# Altium schematic symbol library RC0603.SchLib: 789 symbols (part 9 of 11)
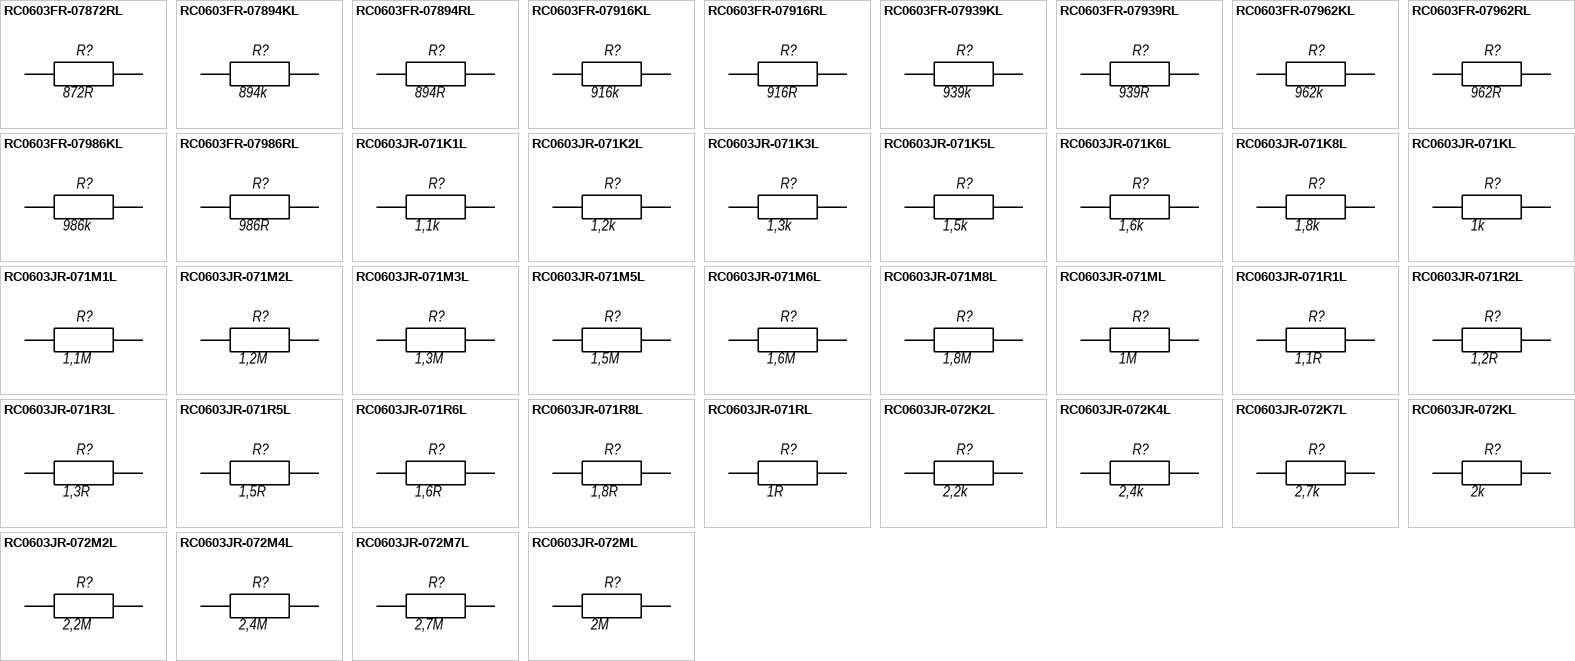
[diagram p27: symbols RC0603FR-07872RL to RC0603JR-072ML]

## RC0603JR-071M5L
designator R?, comment 1,5M
RC0603JR-071M5L 0603 1.5 MOhm ±5% 1/10W 0603 SMD -55C...+155C; Manufacturer: Yageo; BOM2: 1,5 МОм ±5%, 1/10 Вт, SMD 0603, RC0603JR-071M5L; ValueBOM: RC0603JR-071M5L   Yageo                            (1,5 МОм ±5%, 1/10 Вт, SMD 0603, RC0603JR-071M5L); Value: 1,5M; Part Number: RC0603JR-071M5L; Package: 0603; BOM1: 1.5 MOhm ±5% 1/10W 0603 SMD
footprint RESC_0603_1608N (Chip Resistor, Body 1.6x0.8mm, IPC Medium Density)
footprint RESC_0603_1608M (Chip Resistor, Body 1.6x0.8mm, IPC Low Density)
footprint RESC_0603_1608L (Chip Resistor, Body 1.6x0.8mm, IPC High Density)
pins: 1, 2

## RC0603JR-071M6L
designator R?, comment 1,6M
RC0603JR-071M6L 0603 1.6 MOhm ±5% 1/10W 0603 SMD -55C...+155C; Manufacturer: Yageo; BOM2: 1,6 МОм ±5%, 1/10 Вт, SMD 0603, RC0603JR-071M6L; ValueBOM: RC0603JR-071M6L   Yageo                            (1,6 МОм ±5%, 1/10 Вт, SMD 0603, RC0603JR-071M6L); Value: 1,6M; Part Number: RC0603JR-071M6L; Package: 0603; BOM1: 1.6 MOhm ±5% 1/10W 0603 SMD
footprint RESC_0603_1608N (Chip Resistor, Body 1.6x0.8mm, IPC Medium Density)
footprint RESC_0603_1608M (Chip Resistor, Body 1.6x0.8mm, IPC Low Density)
footprint RESC_0603_1608L (Chip Resistor, Body 1.6x0.8mm, IPC High Density)
pins: 1, 2

## RC0603JR-071M8L
designator R?, comment 1,8M
RC0603JR-071M8L 0603 1.8 MOhm ±5% 1/10W 0603 SMD -55C...+155C; Manufacturer: Yageo; BOM2: 1,8 МОм ±5%, 1/10 Вт, SMD 0603, RC0603JR-071M8L; ValueBOM: RC0603JR-071M8L   Yageo                            (1,8 МОм ±5%, 1/10 Вт, SMD 0603, RC0603JR-071M8L); Value: 1,8M; Part Number: RC0603JR-071M8L; Package: 0603; BOM1: 1.8 MOhm ±5% 1/10W 0603 SMD
footprint RESC_0603_1608N (Chip Resistor, Body 1.6x0.8mm, IPC Medium Density)
footprint RESC_0603_1608M (Chip Resistor, Body 1.6x0.8mm, IPC Low Density)
footprint RESC_0603_1608L (Chip Resistor, Body 1.6x0.8mm, IPC High Density)
pins: 1, 2

## RC0603JR-071ML
designator R?, comment 1M
RC0603JR-071ML 0603 1 MOhm ±5% 1/10W 0603 SMD -55C...+155C; Manufacturer: Yageo; BOM2: 1 МОм ±5%, 1/10 Вт, SMD 0603, RC0603JR-071ML; ValueBOM: RC0603JR-071ML   Yageo                            (1 МОм ±5%, 1/10 Вт, SMD 0603, RC0603JR-071ML); Value: 1M; Part Number: RC0603JR-071ML; Package: 0603; BOM1: 1 MOhm ±5% 1/10W 0603 SMD
footprint RESC_0603_1608N (Chip Resistor, Body 1.6x0.8mm, IPC Medium Density)
footprint RESC_0603_1608M (Chip Resistor, Body 1.6x0.8mm, IPC Low Density)
footprint RESC_0603_1608L (Chip Resistor, Body 1.6x0.8mm, IPC High Density)
pins: 1, 2

## RC0603JR-071R1L
designator R?, comment 1,1R
RC0603JR-071R1L 0603 1.1 Ohm ±5% 1/10W 0603 SMD -55C...+155C; Manufacturer: Yageo; BOM2: 1,1 Ом ±5%, 1/10 Вт, SMD 0603, RC0603JR-071R1L; ValueBOM: RC0603JR-071R1L   Yageo                            (1,1 Ом ±5%, 1/10 Вт, SMD 0603, RC0603JR-071R1L); Value: 1,1R; Part Number: RC0603JR-071R1L; Package: 0603; BOM1: 1.1 Ohm ±5% 1/10W 0603 SMD
footprint RESC_0603_1608N (Chip Resistor, Body 1.6x0.8mm, IPC Medium Density)
footprint RESC_0603_1608M (Chip Resistor, Body 1.6x0.8mm, IPC Low Density)
footprint RESC_0603_1608L (Chip Resistor, Body 1.6x0.8mm, IPC High Density)
pins: 1, 2

## RC0603JR-071R2L
designator R?, comment 1,2R
RC0603JR-071R2L 0603 1.2 Ohm ±5% 1/10W 0603 SMD -55C...+155C; Manufacturer: Yageo; BOM2: 1,2 Ом ±5%, 1/10 Вт, SMD 0603, RC0603JR-071R2L; ValueBOM: RC0603JR-071R2L   Yageo                            (1,2 Ом ±5%, 1/10 Вт, SMD 0603, RC0603JR-071R2L); Value: 1,2R; Part Number: RC0603JR-071R2L; Package: 0603; BOM1: 1.2 Ohm ±5% 1/10W 0603 SMD
footprint RESC_0603_1608N (Chip Resistor, Body 1.6x0.8mm, IPC Medium Density)
footprint RESC_0603_1608M (Chip Resistor, Body 1.6x0.8mm, IPC Low Density)
footprint RESC_0603_1608L (Chip Resistor, Body 1.6x0.8mm, IPC High Density)
pins: 1, 2

## RC0603JR-071R3L
designator R?, comment 1,3R
RC0603JR-071R3L 0603 1.3 Ohm ±5% 1/10W 0603 SMD -55C...+155C; Manufacturer: Yageo; BOM2: 1,3 Ом ±5%, 1/10 Вт, SMD 0603, RC0603JR-071R3L; ValueBOM: RC0603JR-071R3L   Yageo                            (1,3 Ом ±5%, 1/10 Вт, SMD 0603, RC0603JR-071R3L); Value: 1,3R; Part Number: RC0603JR-071R3L; Package: 0603; BOM1: 1.3 Ohm ±5% 1/10W 0603 SMD
footprint RESC_0603_1608N (Chip Resistor, Body 1.6x0.8mm, IPC Medium Density)
footprint RESC_0603_1608M (Chip Resistor, Body 1.6x0.8mm, IPC Low Density)
footprint RESC_0603_1608L (Chip Resistor, Body 1.6x0.8mm, IPC High Density)
pins: 1, 2

## RC0603JR-071R5L
designator R?, comment 1,5R
RC0603JR-071R5L 0603 1.5 Ohm ±5% 1/10W 0603 SMD -55C...+155C; Manufacturer: Yageo; BOM2: 1,5 Ом ±5%, 1/10 Вт, SMD 0603, RC0603JR-071R5L; ValueBOM: RC0603JR-071R5L   Yageo                            (1,5 Ом ±5%, 1/10 Вт, SMD 0603, RC0603JR-071R5L); Value: 1,5R; Part Number: RC0603JR-071R5L; Package: 0603; BOM1: 1.5 Ohm ±5% 1/10W 0603 SMD
footprint RESC_0603_1608N (Chip Resistor, Body 1.6x0.8mm, IPC Medium Density)
footprint RESC_0603_1608M (Chip Resistor, Body 1.6x0.8mm, IPC Low Density)
footprint RESC_0603_1608L (Chip Resistor, Body 1.6x0.8mm, IPC High Density)
pins: 1, 2

## RC0603JR-071R6L
designator R?, comment 1,6R
RC0603JR-071R6L 0603 1.6 Ohm ±5% 1/10W 0603 SMD -55C...+155C; Manufacturer: Yageo; BOM2: 1,6 Ом ±5%, 1/10 Вт, SMD 0603, RC0603JR-071R6L; ValueBOM: RC0603JR-071R6L   Yageo                            (1,6 Ом ±5%, 1/10 Вт, SMD 0603, RC0603JR-071R6L); Value: 1,6R; Part Number: RC0603JR-071R6L; Package: 0603; BOM1: 1.6 Ohm ±5% 1/10W 0603 SMD
footprint RESC_0603_1608N (Chip Resistor, Body 1.6x0.8mm, IPC Medium Density)
footprint RESC_0603_1608M (Chip Resistor, Body 1.6x0.8mm, IPC Low Density)
footprint RESC_0603_1608L (Chip Resistor, Body 1.6x0.8mm, IPC High Density)
pins: 1, 2

## RC0603JR-071R8L
designator R?, comment 1,8R
RC0603JR-071R8L 0603 1.8 Ohm ±5% 1/10W 0603 SMD -55C...+155C; Manufacturer: Yageo; BOM2: 1,8 Ом ±5%, 1/10 Вт, SMD 0603, RC0603JR-071R8L; ValueBOM: RC0603JR-071R8L   Yageo                            (1,8 Ом ±5%, 1/10 Вт, SMD 0603, RC0603JR-071R8L); Value: 1,8R; Part Number: RC0603JR-071R8L; Package: 0603; BOM1: 1.8 Ohm ±5% 1/10W 0603 SMD
footprint RESC_0603_1608N (Chip Resistor, Body 1.6x0.8mm, IPC Medium Density)
footprint RESC_0603_1608M (Chip Resistor, Body 1.6x0.8mm, IPC Low Density)
footprint RESC_0603_1608L (Chip Resistor, Body 1.6x0.8mm, IPC High Density)
pins: 1, 2

## RC0603JR-071RL
designator R?, comment 1R
RC0603JR-071RL 0603 1 Ohm ±5% 1/10W 0603 SMD -55C...+155C; Manufacturer: Yageo; BOM2: 1 Ом ±5%, 1/10 Вт, SMD 0603, RC0603JR-071RL; ValueBOM: RC0603JR-071RL   Yageo                            (1 Ом ±5%, 1/10 Вт, SMD 0603, RC0603JR-071RL); Value: 1R; Part Number: RC0603JR-071RL; Package: 0603; BOM1: 1 Ohm ±5% 1/10W 0603 SMD
footprint RESC_0603_1608N (Chip Resistor, Body 1.6x0.8mm, IPC Medium Density)
footprint RESC_0603_1608M (Chip Resistor, Body 1.6x0.8mm, IPC Low Density)
footprint RESC_0603_1608L (Chip Resistor, Body 1.6x0.8mm, IPC High Density)
pins: 1, 2

## RC0603JR-072K2L
designator R?, comment 2,2k
RC0603JR-072K2L 0603 2.2 kOhm ±5% 1/10W 0603 SMD -55C...+155C; Manufacturer: Yageo; BOM2: 2,2 кОм ±5%, 1/10 Вт, SMD 0603, RC0603JR-072K2L; ValueBOM: RC0603JR-072K2L   Yageo                            (2,2 кОм ±5%, 1/10 Вт, SMD 0603, RC0603JR-072K2L); Value: 2,2k; Part Number: RC0603JR-072K2L; Package: 0603; BOM1: 2.2 kOhm ±5% 1/10W 0603 SMD
footprint RESC_0603_1608N (Chip Resistor, Body 1.6x0.8mm, IPC Medium Density)
footprint RESC_0603_1608M (Chip Resistor, Body 1.6x0.8mm, IPC Low Density)
footprint RESC_0603_1608L (Chip Resistor, Body 1.6x0.8mm, IPC High Density)
pins: 1, 2

## RC0603JR-072K4L
designator R?, comment 2,4k
RC0603JR-072K4L 0603 2.4 kOhm ±5% 1/10W 0603 SMD -55C...+155C; Manufacturer: Yageo; BOM2: 2,4 кОм ±5%, 1/10 Вт, SMD 0603, RC0603JR-072K4L; ValueBOM: RC0603JR-072K4L   Yageo                            (2,4 кОм ±5%, 1/10 Вт, SMD 0603, RC0603JR-072K4L); Value: 2,4k; Part Number: RC0603JR-072K4L; Package: 0603; BOM1: 2.4 kOhm ±5% 1/10W 0603 SMD
footprint RESC_0603_1608N (Chip Resistor, Body 1.6x0.8mm, IPC Medium Density)
footprint RESC_0603_1608M (Chip Resistor, Body 1.6x0.8mm, IPC Low Density)
footprint RESC_0603_1608L (Chip Resistor, Body 1.6x0.8mm, IPC High Density)
pins: 1, 2

## RC0603JR-072K7L
designator R?, comment 2,7k
RC0603JR-072K7L 0603 2.7 kOhm ±5% 1/10W 0603 SMD -55C...+155C; Manufacturer: Yageo; BOM2: 2,7 кОм ±5%, 1/10 Вт, SMD 0603, RC0603JR-072K7L; ValueBOM: RC0603JR-072K7L   Yageo                            (2,7 кОм ±5%, 1/10 Вт, SMD 0603, RC0603JR-072K7L); Value: 2,7k; Part Number: RC0603JR-072K7L; Package: 0603; BOM1: 2.7 kOhm ±5% 1/10W 0603 SMD
footprint RESC_0603_1608N (Chip Resistor, Body 1.6x0.8mm, IPC Medium Density)
footprint RESC_0603_1608M (Chip Resistor, Body 1.6x0.8mm, IPC Low Density)
footprint RESC_0603_1608L (Chip Resistor, Body 1.6x0.8mm, IPC High Density)
pins: 1, 2

## RC0603JR-072KL
designator R?, comment 2k
RC0603JR-072KL 0603 2 kOhm ±5% 1/10W 0603 SMD -55C...+155C; Manufacturer: Yageo; BOM2: 2 кОм ±5%, 1/10 Вт, SMD 0603, RC0603JR-072KL; ValueBOM: RC0603JR-072KL   Yageo                            (2 кОм ±5%, 1/10 Вт, SMD 0603, RC0603JR-072KL); Value: 2k; Part Number: RC0603JR-072KL; Package: 0603; BOM1: 2 kOhm ±5% 1/10W 0603 SMD
footprint RESC_0603_1608N (Chip Resistor, Body 1.6x0.8mm, IPC Medium Density)
footprint RESC_0603_1608M (Chip Resistor, Body 1.6x0.8mm, IPC Low Density)
footprint RESC_0603_1608L (Chip Resistor, Body 1.6x0.8mm, IPC High Density)
pins: 1, 2

## RC0603JR-072M2L
designator R?, comment 2,2M
RC0603JR-072M2L 0603 2.2 MOhm ±5% 1/10W 0603 SMD -55C...+155C; Manufacturer: Yageo; BOM2: 2,2 МОм ±5%, 1/10 Вт, SMD 0603, RC0603JR-072M2L; ValueBOM: RC0603JR-072M2L   Yageo                            (2,2 МОм ±5%, 1/10 Вт, SMD 0603, RC0603JR-072M2L); Value: 2,2M; Part Number: RC0603JR-072M2L; Package: 0603; BOM1: 2.2 MOhm ±5% 1/10W 0603 SMD
footprint RESC_0603_1608N (Chip Resistor, Body 1.6x0.8mm, IPC Medium Density)
footprint RESC_0603_1608M (Chip Resistor, Body 1.6x0.8mm, IPC Low Density)
footprint RESC_0603_1608L (Chip Resistor, Body 1.6x0.8mm, IPC High Density)
pins: 1, 2

## RC0603JR-072M4L
designator R?, comment 2,4M
RC0603JR-072M4L 0603 2.4 MOhm ±5% 1/10W 0603 SMD -55C...+155C; Manufacturer: Yageo; BOM2: 2,4 МОм ±5%, 1/10 Вт, SMD 0603, RC0603JR-072M4L; ValueBOM: RC0603JR-072M4L   Yageo                            (2,4 МОм ±5%, 1/10 Вт, SMD 0603, RC0603JR-072M4L); Value: 2,4M; Part Number: RC0603JR-072M4L; Package: 0603; BOM1: 2.4 MOhm ±5% 1/10W 0603 SMD
footprint RESC_0603_1608N (Chip Resistor, Body 1.6x0.8mm, IPC Medium Density)
footprint RESC_0603_1608M (Chip Resistor, Body 1.6x0.8mm, IPC Low Density)
footprint RESC_0603_1608L (Chip Resistor, Body 1.6x0.8mm, IPC High Density)
pins: 1, 2

## RC0603JR-072M7L
designator R?, comment 2,7M
RC0603JR-072M7L 0603 2.7 MOhm ±5% 1/10W 0603 SMD -55C...+155C; Manufacturer: Yageo; BOM2: 2,7 МОм ±5%, 1/10 Вт, SMD 0603, RC0603JR-072M7L; ValueBOM: RC0603JR-072M7L   Yageo                            (2,7 МОм ±5%, 1/10 Вт, SMD 0603, RC0603JR-072M7L); Value: 2,7M; Part Number: RC0603JR-072M7L; Package: 0603; BOM1: 2.7 MOhm ±5% 1/10W 0603 SMD
footprint RESC_0603_1608N (Chip Resistor, Body 1.6x0.8mm, IPC Medium Density)
footprint RESC_0603_1608M (Chip Resistor, Body 1.6x0.8mm, IPC Low Density)
footprint RESC_0603_1608L (Chip Resistor, Body 1.6x0.8mm, IPC High Density)
pins: 1, 2

## RC0603JR-072ML
designator R?, comment 2M
RC0603JR-072ML 0603 2 MOhm ±5% 1/10W 0603 SMD -55C...+155C; Manufacturer: Yageo; BOM2: 2 МОм ±5%, 1/10 Вт, SMD 0603, RC0603JR-072ML; ValueBOM: RC0603JR-072ML   Yageo                            (2 МОм ±5%, 1/10 Вт, SMD 0603, RC0603JR-072ML); Value: 2M; Part Number: RC0603JR-072ML; Package: 0603; BOM1: 2 MOhm ±5% 1/10W 0603 SMD
footprint RESC_0603_1608N (Chip Resistor, Body 1.6x0.8mm, IPC Medium Density)
footprint RESC_0603_1608M (Chip Resistor, Body 1.6x0.8mm, IPC Low Density)
footprint RESC_0603_1608L (Chip Resistor, Body 1.6x0.8mm, IPC High Density)
pins: 1, 2

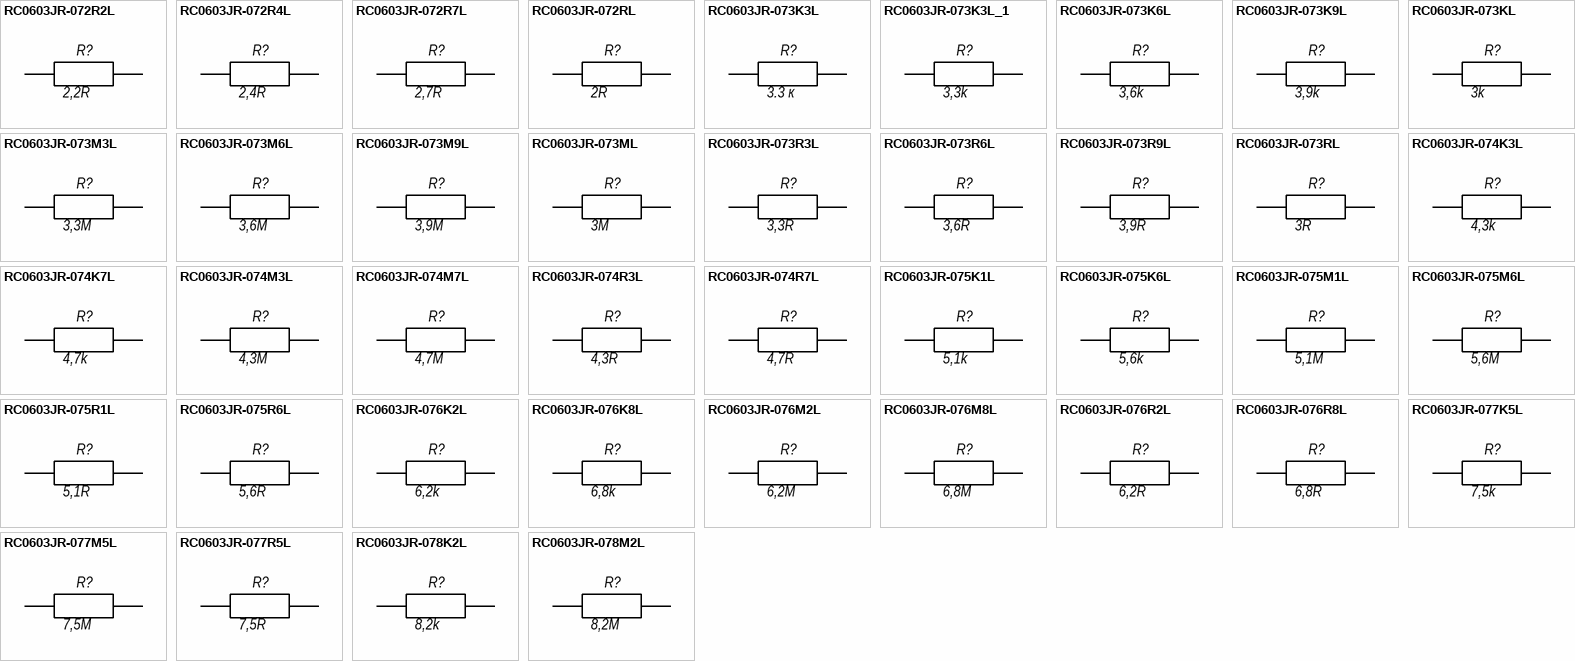
[diagram p16: symbols RC0603JR-072R2L to RC0603JR-078M2L]

## RC0603JR-072R2L
designator R?, comment 2,2R
RC0603JR-072R2L 0603 2.2 Ohm ±5% 1/10W 0603 SMD -55C...+155C; Manufacturer: Yageo; BOM2: 2,2 Ом ±5%, 1/10 Вт, SMD 0603, RC0603JR-072R2L; ValueBOM: RC0603JR-072R2L   Yageo                            (2,2 Ом ±5%, 1/10 Вт, SMD 0603, RC0603JR-072R2L); Value: 2,2R; Part Number: RC0603JR-072R2L; Package: 0603; BOM1: 2.2 Ohm ±5% 1/10W 0603 SMD
footprint RESC_0603_1608N (Chip Resistor, Body 1.6x0.8mm, IPC Medium Density)
footprint RESC_0603_1608M (Chip Resistor, Body 1.6x0.8mm, IPC Low Density)
footprint RESC_0603_1608L (Chip Resistor, Body 1.6x0.8mm, IPC High Density)
pins: 1, 2

## RC0603JR-072R4L
designator R?, comment 2,4R
RC0603JR-072R4L 0603 2.4 Ohm ±5% 1/10W 0603 SMD -55C...+155C; Manufacturer: Yageo; BOM2: 2,4 Ом ±5%, 1/10 Вт, SMD 0603, RC0603JR-072R4L; ValueBOM: RC0603JR-072R4L   Yageo                            (2,4 Ом ±5%, 1/10 Вт, SMD 0603, RC0603JR-072R4L); Value: 2,4R; Part Number: RC0603JR-072R4L; Package: 0603; BOM1: 2.4 Ohm ±5% 1/10W 0603 SMD
footprint RESC_0603_1608N (Chip Resistor, Body 1.6x0.8mm, IPC Medium Density)
footprint RESC_0603_1608M (Chip Resistor, Body 1.6x0.8mm, IPC Low Density)
footprint RESC_0603_1608L (Chip Resistor, Body 1.6x0.8mm, IPC High Density)
pins: 1, 2

## RC0603JR-072R7L
designator R?, comment 2,7R
RC0603JR-072R7L 0603 2.7 Ohm ±5% 1/10W 0603 SMD -55C...+155C; Manufacturer: Yageo; BOM2: 2,7 Ом ±5%, 1/10 Вт, SMD 0603, RC0603JR-072R7L; ValueBOM: RC0603JR-072R7L   Yageo                            (2,7 Ом ±5%, 1/10 Вт, SMD 0603, RC0603JR-072R7L); Value: 2,7R; Part Number: RC0603JR-072R7L; Package: 0603; BOM1: 2.7 Ohm ±5% 1/10W 0603 SMD
footprint RESC_0603_1608N (Chip Resistor, Body 1.6x0.8mm, IPC Medium Density)
footprint RESC_0603_1608M (Chip Resistor, Body 1.6x0.8mm, IPC Low Density)
footprint RESC_0603_1608L (Chip Resistor, Body 1.6x0.8mm, IPC High Density)
pins: 1, 2

## RC0603JR-072RL
designator R?, comment 2R
RC0603JR-072RL 0603 2 Ohm ±5% 1/10W 0603 SMD -55C...+155C; Manufacturer: Yageo; BOM2: 2 Ом ±5%, 1/10 Вт, SMD 0603, RC0603JR-072RL; ValueBOM: RC0603JR-072RL   Yageo                            (2 Ом ±5%, 1/10 Вт, SMD 0603, RC0603JR-072RL); Value: 2R; Part Number: RC0603JR-072RL; Package: 0603; BOM1: 2 Ohm ±5% 1/10W 0603 SMD
footprint RESC_0603_1608N (Chip Resistor, Body 1.6x0.8mm, IPC Medium Density)
footprint RESC_0603_1608M (Chip Resistor, Body 1.6x0.8mm, IPC Low Density)
footprint RESC_0603_1608L (Chip Resistor, Body 1.6x0.8mm, IPC High Density)
pins: 1, 2

## RC0603JR-073K3L
designator R?, comment 3.3 к
RC0603JR-073K3L 0603 3.3 kOhm ±5% 1/10W -55C...+155C; Manufacturer: Yageo; BOM1: 3.3 kOhm ±5% 1/10W 0603 SMD; BOM2: 3,3 кОм ±5%, 1/10 Вт, SMD 0603, RC0603JR-073K3L; ValueBOM: RC0603JR-073K3L   Yageo                            (3,3 кОм ±5%, 1/10 Вт, SMD 0603, RC0603JR-073K3L); Value: 3.3 к; Part Number: RC0603JR-073K3L; Package: 0603
footprint RESC_0603_1608N (Chip Resistor, Body 1.6x0.8mm, IPC Medium Density)
footprint RESC_0603_1608M (Chip Resistor, Body 1.6x0.8mm, IPC Low Density)
footprint RESC_0603_1608L (Chip Resistor, Body 1.6x0.8mm, IPC High Density)
pins: 1, 2

## RC0603JR-073K3L_1
designator R?, comment 3,3k
RC0603JR-073K3L 0603 3.3 kOhm ±5% 1/10W 0603 SMD -55C...+155C; Manufacturer: Yageo; BOM2: 3,3 кОм ±5%, 1/10 Вт, SMD 0603, RC0603JR-073K3L; ValueBOM: RC0603JR-073K3L   Yageo                            (3,3 кОм ±5%, 1/10 Вт, SMD 0603, RC0603JR-073K3L); Value: 3,3k; Part Number: RC0603JR-073K3L; Package: 0603; BOM1: 3.3 kOhm ±5% 1/10W 0603 SMD
footprint RESC_0603_1608N (Chip Resistor, Body 1.6x0.8mm, IPC Medium Density)
footprint RESC_0603_1608M (Chip Resistor, Body 1.6x0.8mm, IPC Low Density)
footprint RESC_0603_1608L (Chip Resistor, Body 1.6x0.8mm, IPC High Density)
pins: 1, 2

## RC0603JR-073K6L
designator R?, comment 3,6k
RC0603JR-073K6L 0603 3.6 kOhm ±5% 1/10W 0603 SMD -55C...+155C; Manufacturer: Yageo; BOM2: 3,6 кОм ±5%, 1/10 Вт, SMD 0603, RC0603JR-073K6L; ValueBOM: RC0603JR-073K6L   Yageo                            (3,6 кОм ±5%, 1/10 Вт, SMD 0603, RC0603JR-073K6L); Value: 3,6k; Part Number: RC0603JR-073K6L; Package: 0603; BOM1: 3.6 kOhm ±5% 1/10W 0603 SMD
footprint RESC_0603_1608N (Chip Resistor, Body 1.6x0.8mm, IPC Medium Density)
footprint RESC_0603_1608M (Chip Resistor, Body 1.6x0.8mm, IPC Low Density)
footprint RESC_0603_1608L (Chip Resistor, Body 1.6x0.8mm, IPC High Density)
pins: 1, 2

## RC0603JR-073K9L
designator R?, comment 3,9k
RC0603JR-073K9L 0603 3.9 kOhm ±5% 1/10W 0603 SMD -55C...+155C; Manufacturer: Yageo; BOM2: 3,9 кОм ±5%, 1/10 Вт, SMD 0603, RC0603JR-073K9L; ValueBOM: RC0603JR-073K9L   Yageo                            (3,9 кОм ±5%, 1/10 Вт, SMD 0603, RC0603JR-073K9L); Value: 3,9k; Part Number: RC0603JR-073K9L; Package: 0603; BOM1: 3.9 kOhm ±5% 1/10W 0603 SMD
footprint RESC_0603_1608N (Chip Resistor, Body 1.6x0.8mm, IPC Medium Density)
footprint RESC_0603_1608M (Chip Resistor, Body 1.6x0.8mm, IPC Low Density)
footprint RESC_0603_1608L (Chip Resistor, Body 1.6x0.8mm, IPC High Density)
pins: 1, 2

## RC0603JR-073KL
designator R?, comment 3k
RC0603JR-073KL 0603 3 kOhm ±5% 1/10W 0603 SMD -55C...+155C; Manufacturer: Yageo; BOM2: 3 кОм ±5%, 1/10 Вт, SMD 0603, RC0603JR-073KL; ValueBOM: RC0603JR-073KL   Yageo                            (3 кОм ±5%, 1/10 Вт, SMD 0603, RC0603JR-073KL); Value: 3k; Part Number: RC0603JR-073KL; Package: 0603; BOM1: 3 kOhm ±5% 1/10W 0603 SMD
footprint RESC_0603_1608N (Chip Resistor, Body 1.6x0.8mm, IPC Medium Density)
footprint RESC_0603_1608M (Chip Resistor, Body 1.6x0.8mm, IPC Low Density)
footprint RESC_0603_1608L (Chip Resistor, Body 1.6x0.8mm, IPC High Density)
pins: 1, 2

## RC0603JR-073M3L
designator R?, comment 3,3M
RC0603JR-073M3L 0603 3.3 MOhm ±5% 1/10W 0603 SMD -55C...+155C; Manufacturer: Yageo; BOM2: 3,3 МОм ±5%, 1/10 Вт, SMD 0603, RC0603JR-073M3L; ValueBOM: RC0603JR-073M3L   Yageo                            (3,3 МОм ±5%, 1/10 Вт, SMD 0603, RC0603JR-073M3L); Value: 3,3M; Part Number: RC0603JR-073M3L; Package: 0603; BOM1: 3.3 MOhm ±5% 1/10W 0603 SMD
footprint RESC_0603_1608N (Chip Resistor, Body 1.6x0.8mm, IPC Medium Density)
footprint RESC_0603_1608M (Chip Resistor, Body 1.6x0.8mm, IPC Low Density)
footprint RESC_0603_1608L (Chip Resistor, Body 1.6x0.8mm, IPC High Density)
pins: 1, 2

## RC0603JR-073M6L
designator R?, comment 3,6M
RC0603JR-073M6L 0603 3.6 MOhm ±5% 1/10W 0603 SMD -55C...+155C; Manufacturer: Yageo; BOM2: 3,6 МОм ±5%, 1/10 Вт, SMD 0603, RC0603JR-073M6L; ValueBOM: RC0603JR-073M6L   Yageo                            (3,6 МОм ±5%, 1/10 Вт, SMD 0603, RC0603JR-073M6L); Value: 3,6M; Part Number: RC0603JR-073M6L; Package: 0603; BOM1: 3.6 MOhm ±5% 1/10W 0603 SMD
footprint RESC_0603_1608N (Chip Resistor, Body 1.6x0.8mm, IPC Medium Density)
footprint RESC_0603_1608M (Chip Resistor, Body 1.6x0.8mm, IPC Low Density)
footprint RESC_0603_1608L (Chip Resistor, Body 1.6x0.8mm, IPC High Density)
pins: 1, 2

## RC0603JR-073M9L
designator R?, comment 3,9M
RC0603JR-073M9L 0603 3.9 MOhm ±5% 1/10W 0603 SMD -55C...+155C; Manufacturer: Yageo; BOM2: 3,9 МОм ±5%, 1/10 Вт, SMD 0603, RC0603JR-073M9L; ValueBOM: RC0603JR-073M9L   Yageo                            (3,9 МОм ±5%, 1/10 Вт, SMD 0603, RC0603JR-073M9L); Value: 3,9M; Part Number: RC0603JR-073M9L; Package: 0603; BOM1: 3.9 MOhm ±5% 1/10W 0603 SMD
footprint RESC_0603_1608N (Chip Resistor, Body 1.6x0.8mm, IPC Medium Density)
footprint RESC_0603_1608M (Chip Resistor, Body 1.6x0.8mm, IPC Low Density)
footprint RESC_0603_1608L (Chip Resistor, Body 1.6x0.8mm, IPC High Density)
pins: 1, 2

## RC0603JR-073ML
designator R?, comment 3M
RC0603JR-073ML 0603 3 MOhm ±5% 1/10W 0603 SMD -55C...+155C; Manufacturer: Yageo; BOM2: 3 МОм ±5%, 1/10 Вт, SMD 0603, RC0603JR-073ML; ValueBOM: RC0603JR-073ML   Yageo                            (3 МОм ±5%, 1/10 Вт, SMD 0603, RC0603JR-073ML); Value: 3M; Part Number: RC0603JR-073ML; Package: 0603; BOM1: 3 MOhm ±5% 1/10W 0603 SMD
footprint RESC_0603_1608N (Chip Resistor, Body 1.6x0.8mm, IPC Medium Density)
footprint RESC_0603_1608M (Chip Resistor, Body 1.6x0.8mm, IPC Low Density)
footprint RESC_0603_1608L (Chip Resistor, Body 1.6x0.8mm, IPC High Density)
pins: 1, 2

## RC0603JR-073R3L
designator R?, comment 3,3R
RC0603JR-073R3L 0603 3.3 Ohm ±5% 1/10W 0603 SMD -55C...+155C; Manufacturer: Yageo; BOM2: 3,3 Ом ±5%, 1/10 Вт, SMD 0603, RC0603JR-073R3L; ValueBOM: RC0603JR-073R3L   Yageo                            (3,3 Ом ±5%, 1/10 Вт, SMD 0603, RC0603JR-073R3L); Value: 3,3R; Part Number: RC0603JR-073R3L; Package: 0603; BOM1: 3.3 Ohm ±5% 1/10W 0603 SMD
footprint RESC_0603_1608N (Chip Resistor, Body 1.6x0.8mm, IPC Medium Density)
footprint RESC_0603_1608M (Chip Resistor, Body 1.6x0.8mm, IPC Low Density)
footprint RESC_0603_1608L (Chip Resistor, Body 1.6x0.8mm, IPC High Density)
pins: 1, 2

## RC0603JR-073R6L
designator R?, comment 3,6R
RC0603JR-073R6L 0603 3.6 Ohm ±5% 1/10W 0603 SMD -55C...+155C; Manufacturer: Yageo; BOM2: 3,6 Ом ±5%, 1/10 Вт, SMD 0603, RC0603JR-073R6L; ValueBOM: RC0603JR-073R6L   Yageo                            (3,6 Ом ±5%, 1/10 Вт, SMD 0603, RC0603JR-073R6L); Value: 3,6R; Part Number: RC0603JR-073R6L; Package: 0603; BOM1: 3.6 Ohm ±5% 1/10W 0603 SMD
footprint RESC_0603_1608N (Chip Resistor, Body 1.6x0.8mm, IPC Medium Density)
footprint RESC_0603_1608M (Chip Resistor, Body 1.6x0.8mm, IPC Low Density)
footprint RESC_0603_1608L (Chip Resistor, Body 1.6x0.8mm, IPC High Density)
pins: 1, 2

## RC0603JR-073R9L
designator R?, comment 3,9R
RC0603JR-073R9L 0603 3.9 Ohm ±5% 1/10W 0603 SMD -55C...+155C; Manufacturer: Yageo; BOM2: 3,9 Ом ±5%, 1/10 Вт, SMD 0603, RC0603JR-073R9L; ValueBOM: RC0603JR-073R9L   Yageo                            (3,9 Ом ±5%, 1/10 Вт, SMD 0603, RC0603JR-073R9L); Value: 3,9R; Part Number: RC0603JR-073R9L; Package: 0603; BOM1: 3.9 Ohm ±5% 1/10W 0603 SMD
footprint RESC_0603_1608N (Chip Resistor, Body 1.6x0.8mm, IPC Medium Density)
footprint RESC_0603_1608M (Chip Resistor, Body 1.6x0.8mm, IPC Low Density)
footprint RESC_0603_1608L (Chip Resistor, Body 1.6x0.8mm, IPC High Density)
pins: 1, 2

## RC0603JR-073RL
designator R?, comment 3R
RC0603JR-073RL 0603 3 Ohm ±5% 1/10W 0603 SMD -55C...+155C; Manufacturer: Yageo; BOM2: 3 Ом ±5%, 1/10 Вт, SMD 0603, RC0603JR-073RL; ValueBOM: RC0603JR-073RL   Yageo                            (3 Ом ±5%, 1/10 Вт, SMD 0603, RC0603JR-073RL); Value: 3R; Part Number: RC0603JR-073RL; Package: 0603; BOM1: 3 Ohm ±5% 1/10W 0603 SMD
footprint RESC_0603_1608N (Chip Resistor, Body 1.6x0.8mm, IPC Medium Density)
footprint RESC_0603_1608M (Chip Resistor, Body 1.6x0.8mm, IPC Low Density)
footprint RESC_0603_1608L (Chip Resistor, Body 1.6x0.8mm, IPC High Density)
pins: 1, 2

## RC0603JR-074K3L
designator R?, comment 4,3k
RC0603JR-074K3L 0603 4.3 kOhm ±5% 1/10W 0603 SMD -55C...+155C; Manufacturer: Yageo; BOM2: 4,3 кОм ±5%, 1/10 Вт, SMD 0603, RC0603JR-074K3L; ValueBOM: RC0603JR-074K3L   Yageo                            (4,3 кОм ±5%, 1/10 Вт, SMD 0603, RC0603JR-074K3L); Value: 4,3k; Part Number: RC0603JR-074K3L; Package: 0603; BOM1: 4.3 kOhm ±5% 1/10W 0603 SMD
footprint RESC_0603_1608N (Chip Resistor, Body 1.6x0.8mm, IPC Medium Density)
footprint RESC_0603_1608M (Chip Resistor, Body 1.6x0.8mm, IPC Low Density)
footprint RESC_0603_1608L (Chip Resistor, Body 1.6x0.8mm, IPC High Density)
pins: 1, 2

## RC0603JR-074K7L
designator R?, comment 4,7k
RC0603JR-074K7L 0603 4.7 kOhm ±5% 1/10W 0603 SMD -55C...+155C; Manufacturer: Yageo; BOM2: 4,7 кОм ±5%, 1/10 Вт, SMD 0603, RC0603JR-074K7L; ValueBOM: RC0603JR-074K7L   Yageo                            (4,7 кОм ±5%, 1/10 Вт, SMD 0603, RC0603JR-074K7L); Value: 4,7k; Part Number: RC0603JR-074K7L; Package: 0603; BOM1: 4.7 kOhm ±5% 1/10W 0603 SMD
footprint RESC_0603_1608N (Chip Resistor, Body 1.6x0.8mm, IPC Medium Density)
footprint RESC_0603_1608M (Chip Resistor, Body 1.6x0.8mm, IPC Low Density)
footprint RESC_0603_1608L (Chip Resistor, Body 1.6x0.8mm, IPC High Density)
pins: 1, 2

## RC0603JR-074M3L
designator R?, comment 4,3M
RC0603JR-074M3L 0603 4.3 MOhm ±5% 1/10W 0603 SMD -55C...+155C; Manufacturer: Yageo; BOM2: 4,3 МОм ±5%, 1/10 Вт, SMD 0603, RC0603JR-074M3L; ValueBOM: RC0603JR-074M3L   Yageo                            (4,3 МОм ±5%, 1/10 Вт, SMD 0603, RC0603JR-074M3L); Value: 4,3M; Part Number: RC0603JR-074M3L; Package: 0603; BOM1: 4.3 MOhm ±5% 1/10W 0603 SMD
footprint RESC_0603_1608N (Chip Resistor, Body 1.6x0.8mm, IPC Medium Density)
footprint RESC_0603_1608M (Chip Resistor, Body 1.6x0.8mm, IPC Low Density)
footprint RESC_0603_1608L (Chip Resistor, Body 1.6x0.8mm, IPC High Density)
pins: 1, 2

## RC0603JR-074M7L
designator R?, comment 4,7M
RC0603JR-074M7L 0603 4.7 MOhm ±5% 1/10W 0603 SMD -55C...+155C; Manufacturer: Yageo; BOM2: 4,7 МОм ±5%, 1/10 Вт, SMD 0603, RC0603JR-074M7L; ValueBOM: RC0603JR-074M7L   Yageo                            (4,7 МОм ±5%, 1/10 Вт, SMD 0603, RC0603JR-074M7L); Value: 4,7M; Part Number: RC0603JR-074M7L; Package: 0603; BOM1: 4.7 MOhm ±5% 1/10W 0603 SMD
footprint RESC_0603_1608N (Chip Resistor, Body 1.6x0.8mm, IPC Medium Density)
footprint RESC_0603_1608M (Chip Resistor, Body 1.6x0.8mm, IPC Low Density)
footprint RESC_0603_1608L (Chip Resistor, Body 1.6x0.8mm, IPC High Density)
pins: 1, 2

## RC0603JR-074R3L
designator R?, comment 4,3R
RC0603JR-074R3L 0603 4.3 Ohm ±5% 1/10W 0603 SMD -55C...+155C; Manufacturer: Yageo; BOM2: 4,3 Ом ±5%, 1/10 Вт, SMD 0603, RC0603JR-074R3L; ValueBOM: RC0603JR-074R3L   Yageo                            (4,3 Ом ±5%, 1/10 Вт, SMD 0603, RC0603JR-074R3L); Value: 4,3R; Part Number: RC0603JR-074R3L; Package: 0603; BOM1: 4.3 Ohm ±5% 1/10W 0603 SMD
footprint RESC_0603_1608N (Chip Resistor, Body 1.6x0.8mm, IPC Medium Density)
footprint RESC_0603_1608M (Chip Resistor, Body 1.6x0.8mm, IPC Low Density)
footprint RESC_0603_1608L (Chip Resistor, Body 1.6x0.8mm, IPC High Density)
pins: 1, 2

## RC0603JR-074R7L
designator R?, comment 4,7R
RC0603JR-074R7L 0603 4.7 Ohm ±5% 1/10W 0603 SMD -55C...+155C; Manufacturer: Yageo; BOM2: 4,7 Ом ±5%, 1/10 Вт, SMD 0603, RC0603JR-074R7L; ValueBOM: RC0603JR-074R7L   Yageo                            (4,7 Ом ±5%, 1/10 Вт, SMD 0603, RC0603JR-074R7L); Value: 4,7R; Part Number: RC0603JR-074R7L; Package: 0603; BOM1: 4.7 Ohm ±5% 1/10W 0603 SMD
footprint RESC_0603_1608N (Chip Resistor, Body 1.6x0.8mm, IPC Medium Density)
footprint RESC_0603_1608M (Chip Resistor, Body 1.6x0.8mm, IPC Low Density)
footprint RESC_0603_1608L (Chip Resistor, Body 1.6x0.8mm, IPC High Density)
pins: 1, 2

## RC0603JR-075K1L
designator R?, comment 5,1k
RC0603JR-075K1L 0603 5.1 kOhm ±5% 1/10W 0603 SMD -55C...+155C; Manufacturer: Yageo; BOM2: 5,1 кОм ±5%, 1/10 Вт, SMD 0603, RC0603JR-075K1L; ValueBOM: RC0603JR-075K1L   Yageo                            (5,1 кОм ±5%, 1/10 Вт, SMD 0603, RC0603JR-075K1L); Value: 5,1k; Part Number: RC0603JR-075K1L; Package: 0603; BOM1: 5.1 kOhm ±5% 1/10W 0603 SMD
footprint RESC_0603_1608N (Chip Resistor, Body 1.6x0.8mm, IPC Medium Density)
footprint RESC_0603_1608M (Chip Resistor, Body 1.6x0.8mm, IPC Low Density)
footprint RESC_0603_1608L (Chip Resistor, Body 1.6x0.8mm, IPC High Density)
pins: 1, 2

## RC0603JR-075K6L
designator R?, comment 5,6k
RC0603JR-075K6L 0603 5.6 kOhm ±5% 1/10W 0603 SMD -55C...+155C; Manufacturer: Yageo; BOM2: 5,6 кОм ±5%, 1/10 Вт, SMD 0603, RC0603JR-075K6L; ValueBOM: RC0603JR-075K6L   Yageo                            (5,6 кОм ±5%, 1/10 Вт, SMD 0603, RC0603JR-075K6L); Value: 5,6k; Part Number: RC0603JR-075K6L; Package: 0603; BOM1: 5.6 kOhm ±5% 1/10W 0603 SMD
footprint RESC_0603_1608N (Chip Resistor, Body 1.6x0.8mm, IPC Medium Density)
footprint RESC_0603_1608M (Chip Resistor, Body 1.6x0.8mm, IPC Low Density)
footprint RESC_0603_1608L (Chip Resistor, Body 1.6x0.8mm, IPC High Density)
pins: 1, 2

## RC0603JR-075M1L
designator R?, comment 5,1M
RC0603JR-075M1L 0603 5.1 MOhm ±5% 1/10W 0603 SMD -55C...+155C; Manufacturer: Yageo; BOM2: 5,1 МОм ±5%, 1/10 Вт, SMD 0603, RC0603JR-075M1L; ValueBOM: RC0603JR-075M1L   Yageo                            (5,1 МОм ±5%, 1/10 Вт, SMD 0603, RC0603JR-075M1L); Value: 5,1M; Part Number: RC0603JR-075M1L; Package: 0603; BOM1: 5.1 MOhm ±5% 1/10W 0603 SMD
footprint RESC_0603_1608N (Chip Resistor, Body 1.6x0.8mm, IPC Medium Density)
footprint RESC_0603_1608M (Chip Resistor, Body 1.6x0.8mm, IPC Low Density)
footprint RESC_0603_1608L (Chip Resistor, Body 1.6x0.8mm, IPC High Density)
pins: 1, 2

## RC0603JR-075M6L
designator R?, comment 5,6M
RC0603JR-075M6L 0603 5.6 MOhm ±5% 1/10W 0603 SMD -55C...+155C; Manufacturer: Yageo; BOM2: 5,6 МОм ±5%, 1/10 Вт, SMD 0603, RC0603JR-075M6L; ValueBOM: RC0603JR-075M6L   Yageo                            (5,6 МОм ±5%, 1/10 Вт, SMD 0603, RC0603JR-075M6L); Value: 5,6M; Part Number: RC0603JR-075M6L; Package: 0603; BOM1: 5.6 MOhm ±5% 1/10W 0603 SMD
footprint RESC_0603_1608N (Chip Resistor, Body 1.6x0.8mm, IPC Medium Density)
footprint RESC_0603_1608M (Chip Resistor, Body 1.6x0.8mm, IPC Low Density)
footprint RESC_0603_1608L (Chip Resistor, Body 1.6x0.8mm, IPC High Density)
pins: 1, 2

## RC0603JR-075R1L
designator R?, comment 5,1R
RC0603JR-075R1L 0603 5.1 Ohm ±5% 1/10W 0603 SMD -55C...+155C; Manufacturer: Yageo; BOM2: 5,1 Ом ±5%, 1/10 Вт, SMD 0603, RC0603JR-075R1L; ValueBOM: RC0603JR-075R1L   Yageo                            (5,1 Ом ±5%, 1/10 Вт, SMD 0603, RC0603JR-075R1L); Value: 5,1R; Part Number: RC0603JR-075R1L; Package: 0603; BOM1: 5.1 Ohm ±5% 1/10W 0603 SMD
footprint RESC_0603_1608N (Chip Resistor, Body 1.6x0.8mm, IPC Medium Density)
footprint RESC_0603_1608M (Chip Resistor, Body 1.6x0.8mm, IPC Low Density)
footprint RESC_0603_1608L (Chip Resistor, Body 1.6x0.8mm, IPC High Density)
pins: 1, 2

## RC0603JR-075R6L
designator R?, comment 5,6R
RC0603JR-075R6L 0603 5.6 Ohm ±5% 1/10W 0603 SMD -55C...+155C; Manufacturer: Yageo; BOM2: 5,6 Ом ±5%, 1/10 Вт, SMD 0603, RC0603JR-075R6L; ValueBOM: RC0603JR-075R6L   Yageo                            (5,6 Ом ±5%, 1/10 Вт, SMD 0603, RC0603JR-075R6L); Value: 5,6R; Part Number: RC0603JR-075R6L; Package: 0603; BOM1: 5.6 Ohm ±5% 1/10W 0603 SMD
footprint RESC_0603_1608N (Chip Resistor, Body 1.6x0.8mm, IPC Medium Density)
footprint RESC_0603_1608M (Chip Resistor, Body 1.6x0.8mm, IPC Low Density)
footprint RESC_0603_1608L (Chip Resistor, Body 1.6x0.8mm, IPC High Density)
pins: 1, 2

## RC0603JR-076K2L
designator R?, comment 6,2k
RC0603JR-076K2L 0603 6.2 kOhm ±5% 1/10W 0603 SMD -55C...+155C; Manufacturer: Yageo; BOM2: 6,2 кОм ±5%, 1/10 Вт, SMD 0603, RC0603JR-076K2L; ValueBOM: RC0603JR-076K2L   Yageo                            (6,2 кОм ±5%, 1/10 Вт, SMD 0603, RC0603JR-076K2L); Value: 6,2k; Part Number: RC0603JR-076K2L; Package: 0603; BOM1: 6.2 kOhm ±5% 1/10W 0603 SMD
footprint RESC_0603_1608N (Chip Resistor, Body 1.6x0.8mm, IPC Medium Density)
footprint RESC_0603_1608M (Chip Resistor, Body 1.6x0.8mm, IPC Low Density)
footprint RESC_0603_1608L (Chip Resistor, Body 1.6x0.8mm, IPC High Density)
pins: 1, 2

## RC0603JR-076K8L
designator R?, comment 6,8k
RC0603JR-076K8L 0603 6.8 kOhm ±5% 1/10W 0603 SMD -55C...+155C; Manufacturer: Yageo; BOM2: 6,8 кОм ±5%, 1/10 Вт, SMD 0603, RC0603JR-076K8L; ValueBOM: RC0603JR-076K8L   Yageo                            (6,8 кОм ±5%, 1/10 Вт, SMD 0603, RC0603JR-076K8L); Value: 6,8k; Part Number: RC0603JR-076K8L; Package: 0603; BOM1: 6.8 kOhm ±5% 1/10W 0603 SMD
footprint RESC_0603_1608N (Chip Resistor, Body 1.6x0.8mm, IPC Medium Density)
footprint RESC_0603_1608M (Chip Resistor, Body 1.6x0.8mm, IPC Low Density)
footprint RESC_0603_1608L (Chip Resistor, Body 1.6x0.8mm, IPC High Density)
pins: 1, 2

## RC0603JR-076M2L
designator R?, comment 6,2M
RC0603JR-076M2L 0603 6.2 MOhm ±5% 1/10W 0603 SMD -55C...+155C; Manufacturer: Yageo; BOM2: 6,2 МОм ±5%, 1/10 Вт, SMD 0603, RC0603JR-076M2L; ValueBOM: RC0603JR-076M2L   Yageo                            (6,2 МОм ±5%, 1/10 Вт, SMD 0603, RC0603JR-076M2L); Value: 6,2M; Part Number: RC0603JR-076M2L; Package: 0603; BOM1: 6.2 MOhm ±5% 1/10W 0603 SMD
footprint RESC_0603_1608N (Chip Resistor, Body 1.6x0.8mm, IPC Medium Density)
footprint RESC_0603_1608M (Chip Resistor, Body 1.6x0.8mm, IPC Low Density)
footprint RESC_0603_1608L (Chip Resistor, Body 1.6x0.8mm, IPC High Density)
pins: 1, 2

## RC0603JR-076M8L
designator R?, comment 6,8M
RC0603JR-076M8L 0603 6.8 MOhm ±5% 1/10W 0603 SMD -55C...+155C; Manufacturer: Yageo; BOM2: 6,8 МОм ±5%, 1/10 Вт, SMD 0603, RC0603JR-076M8L; ValueBOM: RC0603JR-076M8L   Yageo                            (6,8 МОм ±5%, 1/10 Вт, SMD 0603, RC0603JR-076M8L); Value: 6,8M; Part Number: RC0603JR-076M8L; Package: 0603; BOM1: 6.8 MOhm ±5% 1/10W 0603 SMD
footprint RESC_0603_1608N (Chip Resistor, Body 1.6x0.8mm, IPC Medium Density)
footprint RESC_0603_1608M (Chip Resistor, Body 1.6x0.8mm, IPC Low Density)
footprint RESC_0603_1608L (Chip Resistor, Body 1.6x0.8mm, IPC High Density)
pins: 1, 2

## RC0603JR-076R2L
designator R?, comment 6,2R
RC0603JR-076R2L 0603 6.2 Ohm ±5% 1/10W 0603 SMD -55C...+155C; Manufacturer: Yageo; BOM2: 6,2 Ом ±5%, 1/10 Вт, SMD 0603, RC0603JR-076R2L; ValueBOM: RC0603JR-076R2L   Yageo                            (6,2 Ом ±5%, 1/10 Вт, SMD 0603, RC0603JR-076R2L); Value: 6,2R; Part Number: RC0603JR-076R2L; Package: 0603; BOM1: 6.2 Ohm ±5% 1/10W 0603 SMD
footprint RESC_0603_1608N (Chip Resistor, Body 1.6x0.8mm, IPC Medium Density)
footprint RESC_0603_1608M (Chip Resistor, Body 1.6x0.8mm, IPC Low Density)
footprint RESC_0603_1608L (Chip Resistor, Body 1.6x0.8mm, IPC High Density)
pins: 1, 2

## RC0603JR-076R8L
designator R?, comment 6,8R
RC0603JR-076R8L 0603 6.8 Ohm ±5% 1/10W 0603 SMD -55C...+155C; Manufacturer: Yageo; BOM2: 6,8 Ом ±5%, 1/10 Вт, SMD 0603, RC0603JR-076R8L; ValueBOM: RC0603JR-076R8L   Yageo                            (6,8 Ом ±5%, 1/10 Вт, SMD 0603, RC0603JR-076R8L); Value: 6,8R; Part Number: RC0603JR-076R8L; Package: 0603; BOM1: 6.8 Ohm ±5% 1/10W 0603 SMD
footprint RESC_0603_1608N (Chip Resistor, Body 1.6x0.8mm, IPC Medium Density)
footprint RESC_0603_1608M (Chip Resistor, Body 1.6x0.8mm, IPC Low Density)
footprint RESC_0603_1608L (Chip Resistor, Body 1.6x0.8mm, IPC High Density)
pins: 1, 2

## RC0603JR-077K5L
designator R?, comment 7,5k
RC0603JR-077K5L 0603 7.5 kOhm ±5% 1/10W 0603 SMD -55C...+155C; Manufacturer: Yageo; BOM2: 7,5 кОм ±5%, 1/10 Вт, SMD 0603, RC0603JR-077K5L; ValueBOM: RC0603JR-077K5L   Yageo                            (7,5 кОм ±5%, 1/10 Вт, SMD 0603, RC0603JR-077K5L); Value: 7,5k; Part Number: RC0603JR-077K5L; Package: 0603; BOM1: 7.5 kOhm ±5% 1/10W 0603 SMD
footprint RESC_0603_1608N (Chip Resistor, Body 1.6x0.8mm, IPC Medium Density)
footprint RESC_0603_1608M (Chip Resistor, Body 1.6x0.8mm, IPC Low Density)
footprint RESC_0603_1608L (Chip Resistor, Body 1.6x0.8mm, IPC High Density)
pins: 1, 2

## RC0603JR-077M5L
designator R?, comment 7,5M
RC0603JR-077M5L 0603 7.5 MOhm ±5% 1/10W 0603 SMD -55C...+155C; Manufacturer: Yageo; BOM2: 7,5 МОм ±5%, 1/10 Вт, SMD 0603, RC0603JR-077M5L; ValueBOM: RC0603JR-077M5L   Yageo                            (7,5 МОм ±5%, 1/10 Вт, SMD 0603, RC0603JR-077M5L); Value: 7,5M; Part Number: RC0603JR-077M5L; Package: 0603; BOM1: 7.5 MOhm ±5% 1/10W 0603 SMD
footprint RESC_0603_1608N (Chip Resistor, Body 1.6x0.8mm, IPC Medium Density)
footprint RESC_0603_1608M (Chip Resistor, Body 1.6x0.8mm, IPC Low Density)
footprint RESC_0603_1608L (Chip Resistor, Body 1.6x0.8mm, IPC High Density)
pins: 1, 2

## RC0603JR-077R5L
designator R?, comment 7,5R
RC0603JR-077R5L 0603 7.5 Ohm ±5% 1/10W 0603 SMD -55C...+155C; Manufacturer: Yageo; BOM2: 7,5 Ом ±5%, 1/10 Вт, SMD 0603, RC0603JR-077R5L; ValueBOM: RC0603JR-077R5L   Yageo                            (7,5 Ом ±5%, 1/10 Вт, SMD 0603, RC0603JR-077R5L); Value: 7,5R; Part Number: RC0603JR-077R5L; Package: 0603; BOM1: 7.5 Ohm ±5% 1/10W 0603 SMD
footprint RESC_0603_1608N (Chip Resistor, Body 1.6x0.8mm, IPC Medium Density)
footprint RESC_0603_1608M (Chip Resistor, Body 1.6x0.8mm, IPC Low Density)
footprint RESC_0603_1608L (Chip Resistor, Body 1.6x0.8mm, IPC High Density)
pins: 1, 2

## RC0603JR-078K2L
designator R?, comment 8,2k
RC0603JR-078K2L 0603 8.2 kOhm ±5% 1/10W 0603 SMD -55C...+155C; Manufacturer: Yageo; BOM2: 8,2 кОм ±5%, 1/10 Вт, SMD 0603, RC0603JR-078K2L; ValueBOM: RC0603JR-078K2L   Yageo                            (8,2 кОм ±5%, 1/10 Вт, SMD 0603, RC0603JR-078K2L); Value: 8,2k; Part Number: RC0603JR-078K2L; Package: 0603; BOM1: 8.2 kOhm ±5% 1/10W 0603 SMD
footprint RESC_0603_1608N (Chip Resistor, Body 1.6x0.8mm, IPC Medium Density)
footprint RESC_0603_1608M (Chip Resistor, Body 1.6x0.8mm, IPC Low Density)
footprint RESC_0603_1608L (Chip Resistor, Body 1.6x0.8mm, IPC High Density)
pins: 1, 2

## RC0603JR-078M2L
designator R?, comment 8,2M
RC0603JR-078M2L 0603 8.2 MOhm ±5% 1/10W 0603 SMD -55C...+155C; Manufacturer: Yageo; BOM2: 8,2 МОм ±5%, 1/10 Вт, SMD 0603, RC0603JR-078M2L; ValueBOM: RC0603JR-078M2L   Yageo                            (8,2 МОм ±5%, 1/10 Вт, SMD 0603, RC0603JR-078M2L); Value: 8,2M; Part Number: RC0603JR-078M2L; Package: 0603; BOM1: 8.2 MOhm ±5% 1/10W 0603 SMD
footprint RESC_0603_1608N (Chip Resistor, Body 1.6x0.8mm, IPC Medium Density)
footprint RESC_0603_1608M (Chip Resistor, Body 1.6x0.8mm, IPC Low Density)
footprint RESC_0603_1608L (Chip Resistor, Body 1.6x0.8mm, IPC High Density)
pins: 1, 2

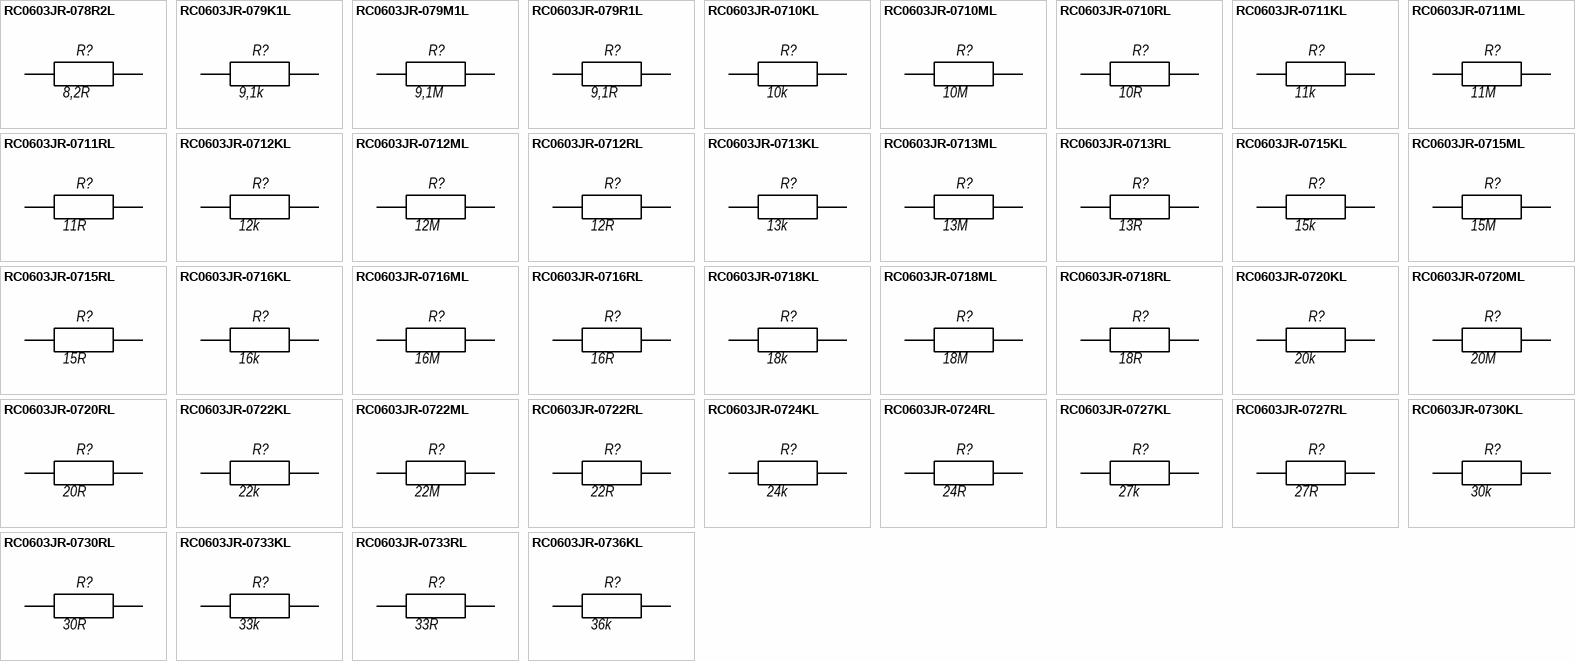
[diagram p17: symbols RC0603JR-078R2L to RC0603JR-0736KL]

## RC0603JR-078R2L
designator R?, comment 8,2R
RC0603JR-078R2L 0603 8.2 Ohm ±5% 1/10W 0603 SMD -55C...+155C; Manufacturer: Yageo; BOM2: 8,2 Ом ±5%, 1/10 Вт, SMD 0603, RC0603JR-078R2L; ValueBOM: RC0603JR-078R2L   Yageo                            (8,2 Ом ±5%, 1/10 Вт, SMD 0603, RC0603JR-078R2L); Value: 8,2R; Part Number: RC0603JR-078R2L; Package: 0603; BOM1: 8.2 Ohm ±5% 1/10W 0603 SMD
footprint RESC_0603_1608N (Chip Resistor, Body 1.6x0.8mm, IPC Medium Density)
footprint RESC_0603_1608M (Chip Resistor, Body 1.6x0.8mm, IPC Low Density)
footprint RESC_0603_1608L (Chip Resistor, Body 1.6x0.8mm, IPC High Density)
pins: 1, 2

## RC0603JR-079K1L
designator R?, comment 9,1k
RC0603JR-079K1L 0603 9.1 kOhm ±5% 1/10W 0603 SMD -55C...+155C; Manufacturer: Yageo; BOM2: 9,1 кОм ±5%, 1/10 Вт, SMD 0603, RC0603JR-079K1L; ValueBOM: RC0603JR-079K1L   Yageo                            (9,1 кОм ±5%, 1/10 Вт, SMD 0603, RC0603JR-079K1L); Value: 9,1k; Part Number: RC0603JR-079K1L; Package: 0603; BOM1: 9.1 kOhm ±5% 1/10W 0603 SMD
footprint RESC_0603_1608N (Chip Resistor, Body 1.6x0.8mm, IPC Medium Density)
footprint RESC_0603_1608M (Chip Resistor, Body 1.6x0.8mm, IPC Low Density)
footprint RESC_0603_1608L (Chip Resistor, Body 1.6x0.8mm, IPC High Density)
pins: 1, 2

## RC0603JR-079M1L
designator R?, comment 9,1M
RC0603JR-079M1L 0603 9.1 MOhm ±5% 1/10W 0603 SMD -55C...+155C; Manufacturer: Yageo; BOM2: 9,1 МОм ±5%, 1/10 Вт, SMD 0603, RC0603JR-079M1L; ValueBOM: RC0603JR-079M1L   Yageo                            (9,1 МОм ±5%, 1/10 Вт, SMD 0603, RC0603JR-079M1L); Value: 9,1M; Part Number: RC0603JR-079M1L; Package: 0603; BOM1: 9.1 MOhm ±5% 1/10W 0603 SMD
footprint RESC_0603_1608N (Chip Resistor, Body 1.6x0.8mm, IPC Medium Density)
footprint RESC_0603_1608M (Chip Resistor, Body 1.6x0.8mm, IPC Low Density)
footprint RESC_0603_1608L (Chip Resistor, Body 1.6x0.8mm, IPC High Density)
pins: 1, 2

## RC0603JR-079R1L
designator R?, comment 9,1R
RC0603JR-079R1L 0603 9.1 Ohm ±5% 1/10W 0603 SMD -55C...+155C; Manufacturer: Yageo; BOM2: 9,1 Ом ±5%, 1/10 Вт, SMD 0603, RC0603JR-079R1L; ValueBOM: RC0603JR-079R1L   Yageo                            (9,1 Ом ±5%, 1/10 Вт, SMD 0603, RC0603JR-079R1L); Value: 9,1R; Part Number: RC0603JR-079R1L; Package: 0603; BOM1: 9.1 Ohm ±5% 1/10W 0603 SMD
footprint RESC_0603_1608N (Chip Resistor, Body 1.6x0.8mm, IPC Medium Density)
footprint RESC_0603_1608M (Chip Resistor, Body 1.6x0.8mm, IPC Low Density)
footprint RESC_0603_1608L (Chip Resistor, Body 1.6x0.8mm, IPC High Density)
pins: 1, 2

## RC0603JR-0710KL
designator R?, comment 10k
RC0603JR-0710KL 0603 10 kOhm ±5% 1/10W 0603 SMD -55C...+155C; Manufacturer: Yageo; BOM2: 10 кОм ±5%, 1/10 Вт, SMD 0603, RC0603JR-0710KL; ValueBOM: RC0603JR-0710KL   Yageo                            (10 кОм ±5%, 1/10 Вт, SMD 0603, RC0603JR-0710KL); Value: 10k; Part Number: RC0603JR-0710KL; Package: 0603; BOM1: 10 kOhm ±5% 1/10W 0603 SMD
footprint RESC_0603_1608N (Chip Resistor, Body 1.6x0.8mm, IPC Medium Density)
footprint RESC_0603_1608M (Chip Resistor, Body 1.6x0.8mm, IPC Low Density)
footprint RESC_0603_1608L (Chip Resistor, Body 1.6x0.8mm, IPC High Density)
pins: 1, 2

## RC0603JR-0710ML
designator R?, comment 10M
RC0603JR-0710ML 0603 10 MOhm ±5% 1/10W 0603 SMD -55C...+155C; Manufacturer: Yageo; BOM2: 10 МОм ±5%, 1/10 Вт, SMD 0603, RC0603JR-0710ML; ValueBOM: RC0603JR-0710ML   Yageo                            (10 МОм ±5%, 1/10 Вт, SMD 0603, RC0603JR-0710ML); Value: 10M; Part Number: RC0603JR-0710ML; Package: 0603; BOM1: 10 MOhm ±5% 1/10W 0603 SMD
footprint RESC_0603_1608N (Chip Resistor, Body 1.6x0.8mm, IPC Medium Density)
footprint RESC_0603_1608M (Chip Resistor, Body 1.6x0.8mm, IPC Low Density)
footprint RESC_0603_1608L (Chip Resistor, Body 1.6x0.8mm, IPC High Density)
pins: 1, 2

## RC0603JR-0710RL
designator R?, comment 10R
RC0603JR-0710RL 0603 10 Ohm ±5% 1/10W 0603 SMD -55C...+155C; Manufacturer: Yageo; BOM2: 10 Ом ±5%, 1/10 Вт, SMD 0603, RC0603JR-0710RL; ValueBOM: RC0603JR-0710RL   Yageo                            (10 Ом ±5%, 1/10 Вт, SMD 0603, RC0603JR-0710RL); Value: 10R; Part Number: RC0603JR-0710RL; Package: 0603; BOM1: 10 Ohm ±5% 1/10W 0603 SMD
footprint RESC_0603_1608N (Chip Resistor, Body 1.6x0.8mm, IPC Medium Density)
footprint RESC_0603_1608M (Chip Resistor, Body 1.6x0.8mm, IPC Low Density)
footprint RESC_0603_1608L (Chip Resistor, Body 1.6x0.8mm, IPC High Density)
pins: 1, 2

## RC0603JR-0711KL
designator R?, comment 11k
RC0603JR-0711KL 0603 11 kOhm ±5% 1/10W 0603 SMD -55C...+155C; Manufacturer: Yageo; BOM2: 11 кОм ±5%, 1/10 Вт, SMD 0603, RC0603JR-0711KL; ValueBOM: RC0603JR-0711KL   Yageo                            (11 кОм ±5%, 1/10 Вт, SMD 0603, RC0603JR-0711KL); Value: 11k; Part Number: RC0603JR-0711KL; Package: 0603; BOM1: 11 kOhm ±5% 1/10W 0603 SMD
footprint RESC_0603_1608N (Chip Resistor, Body 1.6x0.8mm, IPC Medium Density)
footprint RESC_0603_1608M (Chip Resistor, Body 1.6x0.8mm, IPC Low Density)
footprint RESC_0603_1608L (Chip Resistor, Body 1.6x0.8mm, IPC High Density)
pins: 1, 2

## RC0603JR-0711ML
designator R?, comment 11M
RC0603JR-0711ML 0603 11 MOhm ±5% 1/10W 0603 SMD -55C...+155C; Manufacturer: Yageo; BOM2: 11 МОм ±5%, 1/10 Вт, SMD 0603, RC0603JR-0711ML; ValueBOM: RC0603JR-0711ML   Yageo                            (11 МОм ±5%, 1/10 Вт, SMD 0603, RC0603JR-0711ML); Value: 11M; Part Number: RC0603JR-0711ML; Package: 0603; BOM1: 11 MOhm ±5% 1/10W 0603 SMD
footprint RESC_0603_1608N (Chip Resistor, Body 1.6x0.8mm, IPC Medium Density)
footprint RESC_0603_1608M (Chip Resistor, Body 1.6x0.8mm, IPC Low Density)
footprint RESC_0603_1608L (Chip Resistor, Body 1.6x0.8mm, IPC High Density)
pins: 1, 2

## RC0603JR-0711RL
designator R?, comment 11R
RC0603JR-0711RL 0603 11 Ohm ±5% 1/10W 0603 SMD -55C...+155C; Manufacturer: Yageo; BOM2: 11 Ом ±5%, 1/10 Вт, SMD 0603, RC0603JR-0711RL; ValueBOM: RC0603JR-0711RL   Yageo                            (11 Ом ±5%, 1/10 Вт, SMD 0603, RC0603JR-0711RL); Value: 11R; Part Number: RC0603JR-0711RL; Package: 0603; BOM1: 11 Ohm ±5% 1/10W 0603 SMD
footprint RESC_0603_1608N (Chip Resistor, Body 1.6x0.8mm, IPC Medium Density)
footprint RESC_0603_1608M (Chip Resistor, Body 1.6x0.8mm, IPC Low Density)
footprint RESC_0603_1608L (Chip Resistor, Body 1.6x0.8mm, IPC High Density)
pins: 1, 2

## RC0603JR-0712KL
designator R?, comment 12k
RC0603JR-0712KL 0603 12 kOhm ±5% 1/10W 0603 SMD -55C...+155C; Manufacturer: Yageo; BOM2: 12 кОм ±5%, 1/10 Вт, SMD 0603, RC0603JR-0712KL; ValueBOM: RC0603JR-0712KL   Yageo                            (12 кОм ±5%, 1/10 Вт, SMD 0603, RC0603JR-0712KL); Value: 12k; Part Number: RC0603JR-0712KL; Package: 0603; BOM1: 12 kOhm ±5% 1/10W 0603 SMD
footprint RESC_0603_1608N (Chip Resistor, Body 1.6x0.8mm, IPC Medium Density)
footprint RESC_0603_1608M (Chip Resistor, Body 1.6x0.8mm, IPC Low Density)
footprint RESC_0603_1608L (Chip Resistor, Body 1.6x0.8mm, IPC High Density)
pins: 1, 2

## RC0603JR-0712ML
designator R?, comment 12M
RC0603JR-0712ML 0603 12 MOhm ±5% 1/10W 0603 SMD -55C...+155C; Manufacturer: Yageo; BOM2: 12 МОм ±5%, 1/10 Вт, SMD 0603, RC0603JR-0712ML; ValueBOM: RC0603JR-0712ML   Yageo                            (12 МОм ±5%, 1/10 Вт, SMD 0603, RC0603JR-0712ML); Value: 12M; Part Number: RC0603JR-0712ML; Package: 0603; BOM1: 12 MOhm ±5% 1/10W 0603 SMD
footprint RESC_0603_1608N (Chip Resistor, Body 1.6x0.8mm, IPC Medium Density)
footprint RESC_0603_1608M (Chip Resistor, Body 1.6x0.8mm, IPC Low Density)
footprint RESC_0603_1608L (Chip Resistor, Body 1.6x0.8mm, IPC High Density)
pins: 1, 2

## RC0603JR-0712RL
designator R?, comment 12R
RC0603JR-0712RL 0603 12 Ohm ±5% 1/10W 0603 SMD -55C...+155C; Manufacturer: Yageo; BOM2: 12 Ом ±5%, 1/10 Вт, SMD 0603, RC0603JR-0712RL; ValueBOM: RC0603JR-0712RL   Yageo                            (12 Ом ±5%, 1/10 Вт, SMD 0603, RC0603JR-0712RL); Value: 12R; Part Number: RC0603JR-0712RL; Package: 0603; BOM1: 12 Ohm ±5% 1/10W 0603 SMD
footprint RESC_0603_1608N (Chip Resistor, Body 1.6x0.8mm, IPC Medium Density)
footprint RESC_0603_1608M (Chip Resistor, Body 1.6x0.8mm, IPC Low Density)
footprint RESC_0603_1608L (Chip Resistor, Body 1.6x0.8mm, IPC High Density)
pins: 1, 2

## RC0603JR-0713KL
designator R?, comment 13k
RC0603JR-0713KL 0603 13 kOhm ±5% 1/10W 0603 SMD -55C...+155C; Manufacturer: Yageo; BOM2: 13 кОм ±5%, 1/10 Вт, SMD 0603, RC0603JR-0713KL; ValueBOM: RC0603JR-0713KL   Yageo                            (13 кОм ±5%, 1/10 Вт, SMD 0603, RC0603JR-0713KL); Value: 13k; Part Number: RC0603JR-0713KL; Package: 0603; BOM1: 13 kOhm ±5% 1/10W 0603 SMD
footprint RESC_0603_1608N (Chip Resistor, Body 1.6x0.8mm, IPC Medium Density)
footprint RESC_0603_1608M (Chip Resistor, Body 1.6x0.8mm, IPC Low Density)
footprint RESC_0603_1608L (Chip Resistor, Body 1.6x0.8mm, IPC High Density)
pins: 1, 2

## RC0603JR-0713ML
designator R?, comment 13M
RC0603JR-0713ML 0603 13 MOhm ±5% 1/10W 0603 SMD -55C...+155C; Manufacturer: Yageo; BOM2: 13 МОм ±5%, 1/10 Вт, SMD 0603, RC0603JR-0713ML; ValueBOM: RC0603JR-0713ML   Yageo                            (13 МОм ±5%, 1/10 Вт, SMD 0603, RC0603JR-0713ML); Value: 13M; Part Number: RC0603JR-0713ML; Package: 0603; BOM1: 13 MOhm ±5% 1/10W 0603 SMD
footprint RESC_0603_1608N (Chip Resistor, Body 1.6x0.8mm, IPC Medium Density)
footprint RESC_0603_1608M (Chip Resistor, Body 1.6x0.8mm, IPC Low Density)
footprint RESC_0603_1608L (Chip Resistor, Body 1.6x0.8mm, IPC High Density)
pins: 1, 2

## RC0603JR-0713RL
designator R?, comment 13R
RC0603JR-0713RL 0603 13 Ohm ±5% 1/10W 0603 SMD -55C...+155C; Manufacturer: Yageo; BOM2: 13 Ом ±5%, 1/10 Вт, SMD 0603, RC0603JR-0713RL; ValueBOM: RC0603JR-0713RL   Yageo                            (13 Ом ±5%, 1/10 Вт, SMD 0603, RC0603JR-0713RL); Value: 13R; Part Number: RC0603JR-0713RL; Package: 0603; BOM1: 13 Ohm ±5% 1/10W 0603 SMD
footprint RESC_0603_1608N (Chip Resistor, Body 1.6x0.8mm, IPC Medium Density)
footprint RESC_0603_1608M (Chip Resistor, Body 1.6x0.8mm, IPC Low Density)
footprint RESC_0603_1608L (Chip Resistor, Body 1.6x0.8mm, IPC High Density)
pins: 1, 2

## RC0603JR-0715KL
designator R?, comment 15k
RC0603JR-0715KL 0603 15 kOhm ±5% 1/10W 0603 SMD -55C...+155C; Manufacturer: Yageo; BOM2: 15 кОм ±5%, 1/10 Вт, SMD 0603, RC0603JR-0715KL; ValueBOM: RC0603JR-0715KL   Yageo                            (15 кОм ±5%, 1/10 Вт, SMD 0603, RC0603JR-0715KL); Value: 15k; Part Number: RC0603JR-0715KL; Package: 0603; BOM1: 15 kOhm ±5% 1/10W 0603 SMD
footprint RESC_0603_1608N (Chip Resistor, Body 1.6x0.8mm, IPC Medium Density)
footprint RESC_0603_1608M (Chip Resistor, Body 1.6x0.8mm, IPC Low Density)
footprint RESC_0603_1608L (Chip Resistor, Body 1.6x0.8mm, IPC High Density)
pins: 1, 2

## RC0603JR-0715ML
designator R?, comment 15M
RC0603JR-0715ML 0603 15 MOhm ±5% 1/10W 0603 SMD -55C...+155C; Manufacturer: Yageo; BOM2: 15 МОм ±5%, 1/10 Вт, SMD 0603, RC0603JR-0715ML; ValueBOM: RC0603JR-0715ML   Yageo                            (15 МОм ±5%, 1/10 Вт, SMD 0603, RC0603JR-0715ML); Value: 15M; Part Number: RC0603JR-0715ML; Package: 0603; BOM1: 15 MOhm ±5% 1/10W 0603 SMD
footprint RESC_0603_1608N (Chip Resistor, Body 1.6x0.8mm, IPC Medium Density)
footprint RESC_0603_1608M (Chip Resistor, Body 1.6x0.8mm, IPC Low Density)
footprint RESC_0603_1608L (Chip Resistor, Body 1.6x0.8mm, IPC High Density)
pins: 1, 2

## RC0603JR-0715RL
designator R?, comment 15R
RC0603JR-0715RL 0603 15 Ohm ±5% 1/10W 0603 SMD -55C...+155C; Manufacturer: Yageo; BOM2: 15 Ом ±5%, 1/10 Вт, SMD 0603, RC0603JR-0715RL; ValueBOM: RC0603JR-0715RL   Yageo                            (15 Ом ±5%, 1/10 Вт, SMD 0603, RC0603JR-0715RL); Value: 15R; Part Number: RC0603JR-0715RL; Package: 0603; BOM1: 15 Ohm ±5% 1/10W 0603 SMD
footprint RESC_0603_1608N (Chip Resistor, Body 1.6x0.8mm, IPC Medium Density)
footprint RESC_0603_1608M (Chip Resistor, Body 1.6x0.8mm, IPC Low Density)
footprint RESC_0603_1608L (Chip Resistor, Body 1.6x0.8mm, IPC High Density)
pins: 1, 2

## RC0603JR-0716KL
designator R?, comment 16k
RC0603JR-0716KL 0603 16 kOhm ±5% 1/10W 0603 SMD -55C...+155C; Manufacturer: Yageo; BOM2: 16 кОм ±5%, 1/10 Вт, SMD 0603, RC0603JR-0716KL; ValueBOM: RC0603JR-0716KL   Yageo                            (16 кОм ±5%, 1/10 Вт, SMD 0603, RC0603JR-0716KL); Value: 16k; Part Number: RC0603JR-0716KL; Package: 0603; BOM1: 16 kOhm ±5% 1/10W 0603 SMD
footprint RESC_0603_1608N (Chip Resistor, Body 1.6x0.8mm, IPC Medium Density)
footprint RESC_0603_1608M (Chip Resistor, Body 1.6x0.8mm, IPC Low Density)
footprint RESC_0603_1608L (Chip Resistor, Body 1.6x0.8mm, IPC High Density)
pins: 1, 2